# Altium schematic symbol library Micro Power Module.SchLib: 1 symbol
Pins are listed as number, name and electrical type; pins without a type are passive.

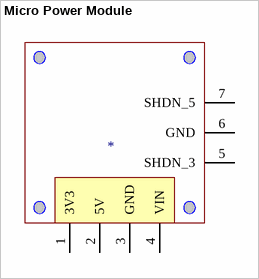
[diagram p0: symbol Micro Power Module]

## Micro Power Module
designator EXTREG?
Revolution Robotics Micro Power Module
footprint Micro Power Module (Revolution Robotics Micro Power Module)
pins: 1 3V3, 2 5V, 3 GND, 4 VIN, 5 SHDN_3, 6 GND, 7 SHDN_5